# Altium footprint library KNX_MCU_8CH_V1.2.PcbLib: 27 footprints (part 1 of 2)
Each footprint in its own frame and in the unit in brackets; x right, y up, seen from the top. Pads: shape width x height; smd on the part's side, far side on the other; paste and mask are expansions set on the pad; w line width, h text height; cw(c..) or ccw(c..) is an arc to the next point about the centre after c.
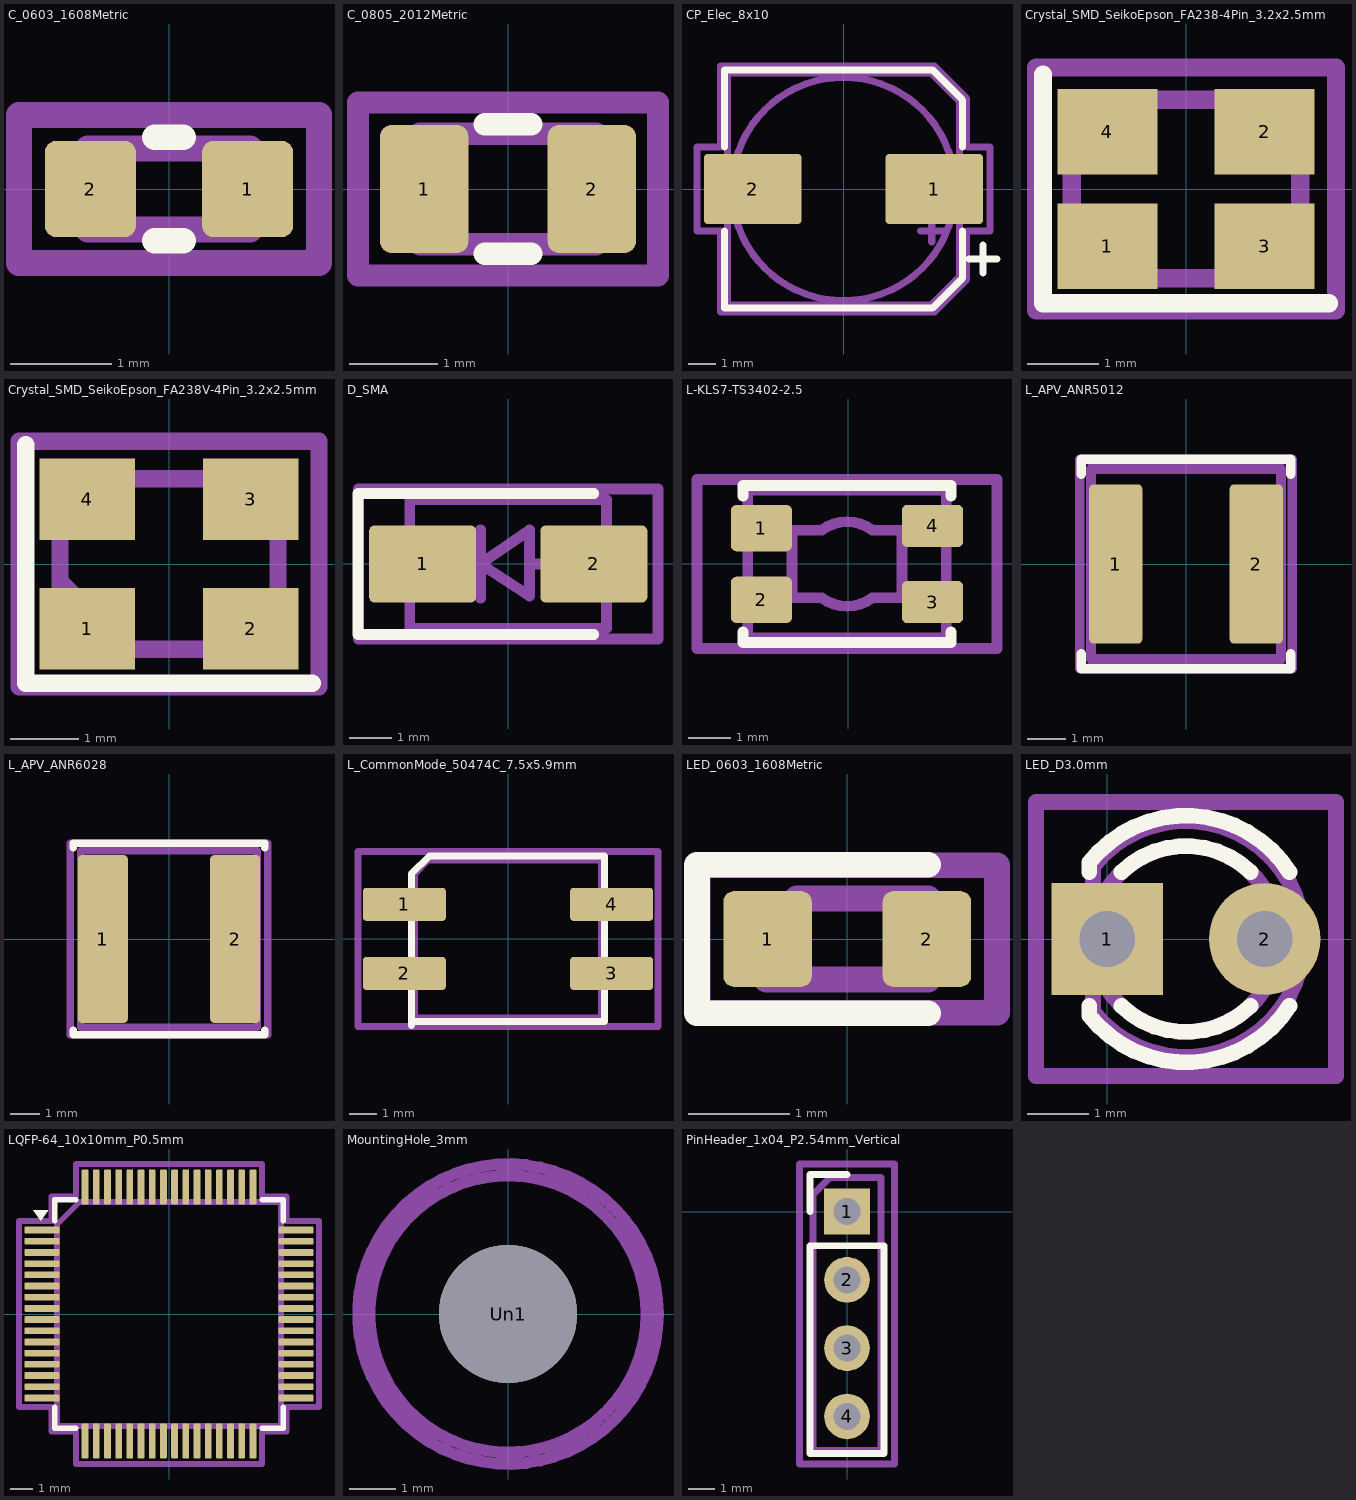
[diagram p0: the footprints below, top view; thin cyan lines are the x and y axes]

## C_0603_1608Metric [mm]
pads (2):
  rrect25% 0.9x0.95 smd mask+0.05: 1(0.775,0) 2(-0.775,0)
Top Overlay:
  lines w0.254: -0.141,-0.51 0.141,-0.51 ; -0.141,0.51 0.141,0.51
Mechanical 29:
  lines w0.254: -1.48,-0.73 1.48,-0.73 1.48,0.73 -1.48,0.73 -1.48,-0.73
Mechanical36:
  lines w0.254: -0.8,-0.4 0.8,-0.4 0.8,0.4 -0.8,0.4 -0.8,-0.4
  text "'.Designator'" at -0.16,-0.114 h0.4

## C_0805_2012Metric [mm]
pads (2):
  rrect25% 1x1.45 smd mask+0.05: 1(-0.95,0) 2(0.95,0)
Top Overlay:
  lines w0.254: -0.261,-0.735 0.261,-0.735 ; -0.261,0.735 0.261,0.735
Mechanical 30:
  lines w0.254: -1.7,-0.98 1.7,-0.98 1.7,0.98 -1.7,0.98 -1.7,-0.98
Mechanical35:
  lines w0.254: -1,-0.625 -1,0.625 1,0.625 1,-0.625 -1,-0.625
  text "'.Designator'" at 0.206,0.143 h0.5

## CP_Elec_8x10 [mm]
pads (2):
  rrect10% 3.5x2.5 smd mask+0.05: 1(3.25,0) 2(-3.25,0)
Top Overlay:
  lines w0.254: -4.26,-1.51 -4.26,-4.26 3.196,-4.26 4.26,-3.196 4.26,-1.51 ; -4.26,1.51 -4.26,4.26 3.196,4.26 4.26,3.196 4.26,1.51 ; 4.5,-2.51 5.5,-2.51 ; 5,-3.01 5,-2.01
Mechanical 29:
  lines w0.254: -5.25,-1.5 -4.4,-1.5 -4.4,-4.4 3.25,-4.4 4.4,-3.25 4.4,-1.5 5.25,-1.5 5.25,1.5 4.4,1.5 4.4,3.25 3.25,4.4 -4.4,4.4 -4.4,1.5 -5.25,1.5 -5.25,-1.5
Mechanical36:
  circle w0.254: c0,0 r4
  lines w0.254: 2.762,-1.5 3.562,-1.5 ; 3.162,-1.9 3.162,-1.1 ; -4.15,-4.15 3.15,-4.15 4.15,-3.15 4.15,3.15 3.15,4.15 -4.15,4.15 -4.15,-4.15
  text "'.Designator'" at -0.412,-0.286 h1

## Crystal_SMD_SeikoEpson_FA238-4Pin_3.2x2.5mm [mm]
pads (4):
  rect 1.4x1.2 smd mask+0.05: 1(-1.1,-0.8) 2(1.1,0.8) 3(1.1,-0.8) 4(-1.1,0.8)
Top Overlay:
  lines w0.254: -2,1.6 -2,-1.6 2,-1.6
Mechanical 30:
  lines w0.254: -2.1,-1.7 -2.1,1.7 2.1,1.7 2.1,-1.7 -2.1,-1.7
Mechanical35:
  lines w0.254: -1.6,-0.25 -0.6,-1.25 ; -1.6,-1.15 -1.5,-1.25 1.5,-1.25 1.6,-1.15 1.6,1.15 1.5,1.25 -1.5,1.25 -1.6,1.15 -1.6,-1.15
  text "'.Designator'" at 0.155,0.194 h0.7

## Crystal_SMD_SeikoEpson_FA238V-4Pin_3.2x2.5mm [mm]
pads (4):
  rect 1.4x1.2 smd mask+0.05: 1(-1.2,-0.95) 2(1.2,-0.95) 3(1.2,0.95) 4(-1.2,0.95)
Top Overlay:
  lines w0.254: -2.1,1.75 -2.1,-1.75 2.1,-1.75
Mechanical 30:
  lines w0.254: -2.2,-1.8 -2.2,1.8 2.2,1.8 2.2,-1.8 -2.2,-1.8
Mechanical35:
  lines w0.254: -1.6,-0.25 -0.6,-1.25 ; -1.6,-1.15 -1.6,1.15 -1.5,1.25 1.5,1.25 1.6,1.15 1.6,-1.15 1.5,-1.25 -1.5,-1.25 -1.6,-1.15
  text "'.Designator'" at -0.18,-0.196 h0.7

## D_SMA [mm]
pads (2):
  rrect14% 2.5x1.8 smd mask+0.05: 1(-2,0) 2(2,0)
Top Overlay:
  lines w0.254: 2,-1.65 -3.51,-1.65 -3.51,1.65 2,1.65
Mechanical 30:
  lines w0.254: -3.5,-1.75 3.5,-1.75 3.5,1.75 -3.5,1.75 -3.5,-1.75
Mechanical35:
  lines w0.254: -1.551,-0.001 -0.649,-0.001 ; -0.649,-0.801 -0.649,0.799 ; 0.501,-0.001 1.499,-0.001 ; -0.649,-0.001 0.501,-0.75 0.501,0.799 -0.649,-0.001 ; -2.3,-1.5 2.3,-1.5 2.3,1.5 -2.3,1.5 -2.3,-1.5
  text "'.Designator'" at 0.273,2.785 h1

## L-KLS7-TS3402-2.5 [mm]
pads (4):
  rrect25% 1.45x1.1 smd mask+0.05: 1(-2.05,0.85) 2(-2.05,-0.85)
  rrect25% 1.45x1 smd mask+0.05: 3(2,-0.9) 4(2,0.9)
Top Overlay:
  lines w0.254: -2.485,-1.61 -2.485,-1.86 2.435,-1.86 2.435,-1.61 ; -2.485,1.61 -2.485,1.86 2.435,1.86 2.435,1.61
Mechanical 30:
  lines w0.254: -3.575,-2 3.525,-2 3.525,2 -3.575,2 -3.575,-2
Mechanical35:
  lines w0.254: -2.375,-1.75 2.325,-1.75 2.325,1.75 -2.375,1.75 -2.375,-1.75 ; -1.325,-0.8 -1.325,0.8 -0.625,0.8 cw(c-0.025,0) 0.575,0.8 1.275,0.8 1.275,-0.8 0.575,-0.8 cw(c-0.025,0) -0.625,-0.8 -1.325,-0.8
  text "'.Designator'" at -0.504,-0.286 h1

## L_APV_ANR5012 [mm]
pads (2):
  rrect18% 1.4x4.2 smd mask+0.05: 1(-1.85,0) 2(1.85,0)
Top Overlay:
  lines w0.254: -2.76,-2.36 -2.76,-2.76 2.76,-2.76 2.76,-2.36 ; -2.76,2.36 -2.76,2.76 2.76,2.76 2.76,2.36
Mechanical 30:
  lines w0.254: -2.8,-2.75 -2.8,2.75 2.8,2.75 2.8,-2.75 -2.8,-2.75
Mechanical35:
  lines w0.254: -2.5,-2.5 2.5,-2.5 2.5,2.5 -2.5,2.5 -2.5,-2.5
  text "'.Designator'" at 0.1,0.139 h0.5

## L_APV_ANR6028 [mm]
pads (2):
  rrect15% 1.7x5.7 smd mask+0.05: 1(-2.25,0) 2(2.25,0)
Top Overlay:
  lines w0.254: -3.26,-3.11 -3.26,-3.26 3.26,-3.26 3.26,-3.11 ; -3.26,3.11 -3.26,3.26 3.26,3.26 3.26,3.11
Mechanical 30:
  lines w0.254: -3.35,-3.25 -3.35,3.25 3.35,3.25 3.35,-3.25 -3.35,-3.25
Mechanical35:
  lines w0.254: -3,-3 3,-3 3,3 -3,3 -3,-3
  text "'.Designator'" at 0.129,0.161 h0.57

## L_CommonMode_50474C_7.5x5.9mm [mm]
pads (4):
  rrect20% 3x1.2 smd mask+0.05: 1(-3.75,1.25) 2(-3.75,-1.25) 3(3.75,-1.25) 4(3.75,1.25)
Top Overlay:
  lines w0.254: -3.5,-3.14 -3.5,2.37 -2.85,3 3.5,3 3.5,-3 -3.5,-3
Mechanical 30:
  lines w0.254: -5.43,-3.18 -5.43,3.17 5.43,3.17 5.43,-3.18 -5.43,-3.18
Mechanical35:
  lines w0.254: -3.39,-2.86 3.38,-2.86 3.38,2.85 -2.89,2.85 -3.39,2.35 -3.39,-2.86
  text "'.Designator'" at 0.168,0.196 h0.7

## LayerMarker_4_6.35x2.54mm_TextH1mm_P1.27mm_Named_BottomMirrored [mm]
Top Layer:
  text "T" at -0.121,0.993 h1
Bottom Layer:
  text "B" at 3.932,0.993 h1

## LED_0603_1608Metric [mm]
pads (2):
  rrect25% 0.875x0.95 smd mask+0.05: 1(-0.787,0) 2(0.787,0)
Top Overlay:
  lines w0.254: 0.8,-0.735 -1.485,-0.735 -1.485,0.735 0.8,0.735
Mechanical 30:
  lines w0.254: -1.48,-0.73 -1.48,0.73 1.48,0.73 1.48,-0.73 -1.48,-0.73
Mechanical35:
  lines w0.254: -0.8,-0.4 -0.8,0.1 -0.5,0.4 0.8,0.4 0.8,-0.4 -0.8,-0.4
  text "'.Designator'" at -0.175,-0.112 h0.4

## LED_D3.0mm [mm]
pads (2):
  rect 1.8x1.8 hole 0.9 mask+0.05: 1(0,0)
  round 1.8 hole 0.9 mask+0.05: 2(2.54,0)
Top Overlay:
  lines w0.254: -0.29,-1.08 -0.29,-1.236 ; -0.29,1.08 -0.29,1.236 ; 0.229,-1.08 ccw(c1.27,0) 2.311,-1.08 ; 0.229,1.08 cw(c1.27,0) 2.311,1.08 ; 2.941,-1.08 cw(c1.27,0) -0.29,-1.236 ; 2.941,1.08 ccw(c1.27,0) -0.29,1.236 ; -0.29,-1.236 -0.29,-1.236 ; -0.29,1.236 -0.29,1.236
Mechanical 30:
  lines w0.254: -1.15,-2.21 -1.15,2.21 3.69,2.21 3.69,-2.21 -1.15,-2.21
Mechanical35:
  circle w0.254: c1.27,0 r1.5
  lines w0.254: -0.23,-1.166 ccw(c1.27,0) -0.23,1.166 -0.23,-1.166
  text "'.Designator'" at 0.954,-0.222 h0.8

## LQFP-64_10x10mm_P0.5mm [mm]
pads (64):
  rrect25% 1.55x0.3 smd mask+0.05: 1(-5.675,3.75) 2(-5.675,3.25) 3(-5.675,2.75) 4(-5.675,2.25) 5(-5.675,1.75) 6(-5.675,1.25) 7(-5.675,0.75) 8(-5.675,0.25) 9(-5.675,-0.25) 10(-5.675,-0.75) 11(-5.675,-1.25) 12(-5.675,-1.75) 13(-5.675,-2.25) 14(-5.675,-2.75) 15(-5.675,-3.25) 16(-5.675,-3.75) 33(5.675,-3.75) 34(5.675,-3.25) 35(5.675,-2.75) 36(5.675,-2.25) 37(5.675,-1.75) 38(5.675,-1.25) 39(5.675,-0.75) 40(5.675,-0.25) 41(5.675,0.25) 42(5.675,0.75) 43(5.675,1.25) 44(5.675,1.75) 45(5.675,2.25) 46(5.675,2.75) 47(5.675,3.25) 48(5.675,3.75)
  rrect25% 0.3x1.55 smd mask+0.05: 17(-3.75,-5.675) 18(-3.25,-5.675) 19(-2.75,-5.675) 20(-2.25,-5.675) 21(-1.75,-5.675) 22(-1.25,-5.675) 23(-0.75,-5.675) 24(-0.25,-5.675) 25(0.25,-5.675) 26(0.75,-5.675) 27(1.25,-5.675) 28(1.75,-5.675) 29(2.25,-5.675) 30(2.75,-5.675) 31(3.25,-5.675) 32(3.75,-5.675) 49(3.75,5.675) 50(3.25,5.675) 51(2.75,5.675) 52(2.25,5.675) 53(1.75,5.675) 54(1.25,5.675) 55(0.75,5.675) 56(0.25,5.675) 57(-0.25,5.675) 58(-0.75,5.675) 59(-1.25,5.675) 60(-1.75,5.675) 61(-2.25,5.675) 62(-2.75,5.675) 63(-3.25,5.675) 64(-3.75,5.675)
Top Overlay:
  region: -5.725,4.16 -6.065,4.63 -5.385,4.63
  lines w0.254: -5.11,-4.16 -5.11,-5.11 -4.16,-5.11 ; -5.11,4.16 -5.11,5.11 -4.16,5.11 ; 4.16,-5.11 5.11,-5.11 5.11,-4.16 ; 4.16,5.11 5.11,5.11 5.11,4.16
Mechanical 30:
  lines w0.254: -6.7,-4.15 -6.7,0 -6.7,4.15 -5.25,4.15 -5.25,5.25 -4.15,5.25 -4.15,6.7 0,6.7 4.15,6.7 4.15,5.25 5.25,5.25 5.25,4.15 6.7,4.15 6.7,0 6.7,-4.15 5.25,-4.15 5.25,-5.25 4.15,-5.25 4.15,-6.7 0,-6.7 -4.15,-6.7 -4.15,-5.25 -5.25,-5.25 -5.25,-4.15 -6.7,-4.15
Mechanical35:
  lines w0.254: -5,-5 -5,4 -4,5 5,5 5,-5 -5,-5
  text "'.Designator'" at -0.291,-0.285 h1

## MountingHole_3mm [mm]
pads (1):
  round 3 hole 3 mask+0.05: Un1(0,0)
Mechanical 25:
  circle w0.254: c0,0 r3
Mechanical 30:
  circle w0.254: c0,0 r3.25
Mechanical35:
  text "'.Designator'" at -0.277,-0.282 h1

## PinHeader_1x04_P2.54mm_Vertical [mm]
pads (4):
  rect 1.7x1.7 hole 1 mask+0.05: 1(0,0)
  round 1.7 hole 1 mask+0.05: 2(0,-2.54) 3(0,-5.08) 4(0,-7.62)
Top Overlay:
  lines w0.254: -1.38,0 -1.38,1.38 0,1.38 ; -1.38,-9 -1.38,-1.27 1.38,-1.27 1.38,-9 -1.38,-9
Mechanical 30:
  lines w0.254: -1.77,-9.39 -1.77,1.77 1.77,1.77 1.77,-9.39 -1.77,-9.39
Mechanical35:
  lines w0.254: -1.27,-8.89 -1.27,0.635 -0.635,1.27 1.27,1.27 1.27,-8.89 -1.27,-8.89
  text "'.Designator'" at 0.364,-4.197 h1